# Altium integrated library FPGA Generic.IntLib: 1651 symbols (part 2 of 20)
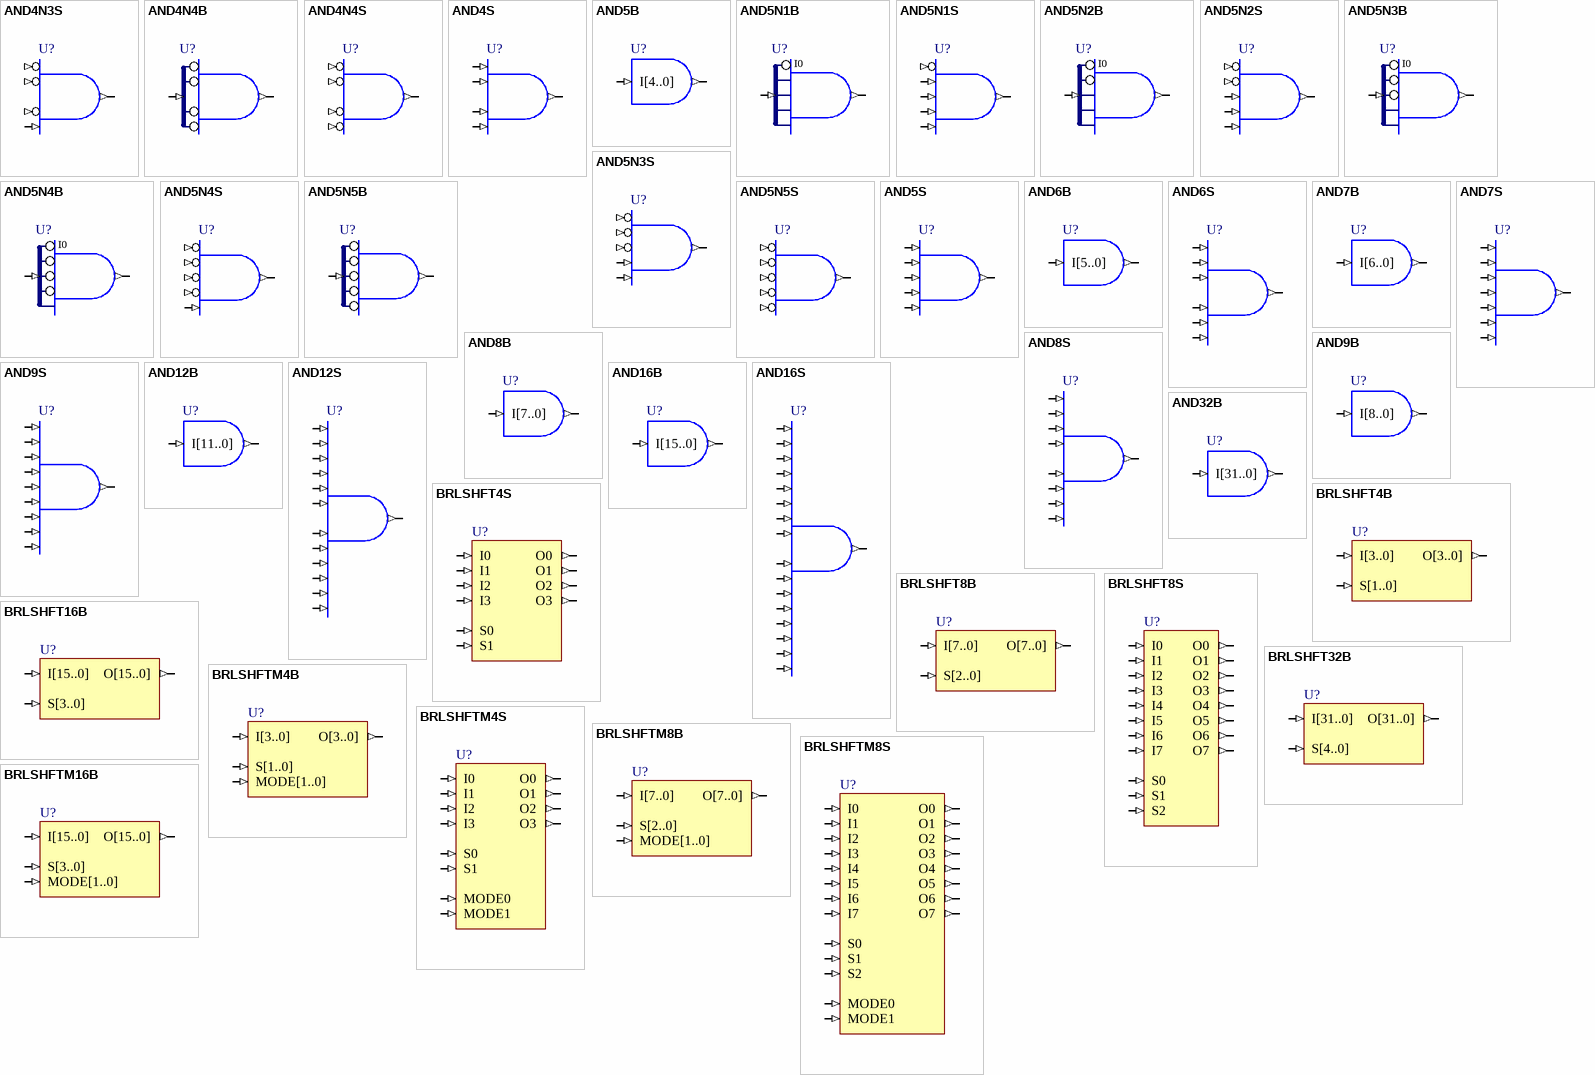
[diagram p44: symbols AND4N3S to BRLSHFTM16B]

## AND5N1B
designator U?
5-Input AND Gate with Active Low A Input, Bus Version; FunctionalClass: Logic Primitive; PortSize: 5; ArchiveName: GENERIC; VHDLIB_SIM: GENERIC_LIB; Published: 29-Jan-2004; Publisher: Altium Limited; LastRevisionNo: 1.00.00; HelpURL: CR0118 FPGA Generic Library Guide.pdf#page=114; ComponentLink1URL: CR0136 FPGA Logic Primitive Resource Usage.pdf#page=37; ComponentLink1Description: Core &Resource Usage; SubClass: AND; PortStyle: Bus Version
pins: I[4..0] (in), O (out)
text: I0

## AND5N1S
designator U?
5-Input AND Gate with Active Low A Input, Single Pin Version; XilinxEquivalent: AND5B1; FunctionalClass: Logic Primitive; PortSize: 5; ArchiveName: GENERIC; VHDLIB_SIM: GENERIC_LIB; Published: 29-Jan-2004; Publisher: Altium Limited; LastRevisionNo: 1.00.00; HelpURL: CR0118 FPGA Generic Library Guide.pdf#page=114; ComponentLink1URL: CR0136 FPGA Logic Primitive Resource Usage.pdf#page=38; ComponentLink1Description: Core &Resource Usage; SubClass: AND; PortStyle: Single Pin Version
pins: I0 (in), I1 (in), I2 (in), I3 (in), I4 (in), O (out)

## AND5N2B
designator U?
5-Input AND Gate with Active Low A and B Inputs, Bus Version; FunctionalClass: Logic Primitive; PortSize: 5; ArchiveName: GENERIC; VHDLIB_SIM: GENERIC_LIB; Published: 29-Jan-2004; Publisher: Altium Limited; LastRevisionNo: 1.00.00; HelpURL: CR0118 FPGA Generic Library Guide.pdf#page=114; ComponentLink1URL: CR0136 FPGA Logic Primitive Resource Usage.pdf#page=39; ComponentLink1Description: Core &Resource Usage; SubClass: AND; PortStyle: Bus Version
pins: I[4..0] (in), O (out)
text: I0

## AND5N2S
designator U?
5-Input AND Gate with Active Low A and B Inputs, Single Pin Version; XilinxEquivalent: AND5B2; FunctionalClass: Logic Primitive; PortSize: 5; ArchiveName: GENERIC; VHDLIB_SIM: GENERIC_LIB; Published: 29-Jan-2004; Publisher: Altium Limited; LastRevisionNo: 1.00.00; HelpURL: CR0118 FPGA Generic Library Guide.pdf#page=114; ComponentLink1URL: CR0136 FPGA Logic Primitive Resource Usage.pdf#page=40; ComponentLink1Description: Core &Resource Usage; SubClass: AND; PortStyle: Single Pin Version
pins: I0 (in), I1 (in), I2 (in), I3 (in), I4 (in), O (out)

## AND5N3B
designator U?
5-Input AND Gate with Active Low A, B and C Inputs, Bus Version; FunctionalClass: Logic Primitive; PortSize: 5; ArchiveName: GENERIC; VHDLIB_SIM: GENERIC_LIB; Published: 29-Jan-2004; Publisher: Altium Limited; LastRevisionNo: 1.00.00; HelpURL: CR0118 FPGA Generic Library Guide.pdf#page=114; ComponentLink1URL: CR0136 FPGA Logic Primitive Resource Usage.pdf#page=41; ComponentLink1Description: Core &Resource Usage; SubClass: AND; PortStyle: Bus Version
pins: I[4..0] (in), O (out)
text: I0

## AND5N3S
designator U?
5-Input AND Gate with Active Low A, B and C Inputs, Single Pin Version; XilinxEquivalent: AND5B3; FunctionalClass: Logic Primitive; PortSize: 5; ArchiveName: GENERIC; VHDLIB_SIM: GENERIC_LIB; Published: 29-Jan-2004; Publisher: Altium Limited; LastRevisionNo: 1.00.00; HelpURL: CR0118 FPGA Generic Library Guide.pdf#page=114; ComponentLink1URL: CR0136 FPGA Logic Primitive Resource Usage.pdf#page=42; ComponentLink1Description: Core &Resource Usage; SubClass: AND; PortStyle: Single Pin Version
pins: I0 (in), I1 (in), I2 (in), I3 (in), I4 (in), O (out)

## AND5N4B
designator U?
5-Input AND Gate with Active Low A, B, C and D Inputs, Bus Version; FunctionalClass: Logic Primitive; PortSize: 5; ArchiveName: GENERIC; VHDLIB_SIM: GENERIC_LIB; Published: 29-Jan-2004; Publisher: Altium Limited; LastRevisionNo: 1.00.00; HelpURL: CR0118 FPGA Generic Library Guide.pdf#page=114; ComponentLink1URL: CR0136 FPGA Logic Primitive Resource Usage.pdf#page=43; ComponentLink1Description: Core &Resource Usage; SubClass: AND; PortStyle: Bus Version
pins: I[4..0] (in), O (out)
text: I0

## AND5N4S
designator U?
5-Input AND Gate with Active Low A, B, C and D Inputs, Single Pin Version; XilinxEquivalent: AND5B4; FunctionalClass: Logic Primitive; PortSize: 5; ArchiveName: GENERIC; VHDLIB_SIM: GENERIC_LIB; Published: 29-Jan-2004; Publisher: Altium Limited; LastRevisionNo: 1.00.00; HelpURL: CR0118 FPGA Generic Library Guide.pdf#page=114; ComponentLink1URL: CR0136 FPGA Logic Primitive Resource Usage.pdf#page=44; ComponentLink1Description: Core &Resource Usage; SubClass: AND; PortStyle: Single Pin Version
pins: I0 (in), I1 (in), I2 (in), I3 (in), I4 (in), O (out)

## AND5N5B
designator U?
5-Input AND Gate with Active Low A, B, C, D and E Inputs, Bus Version; FunctionalClass: Logic Primitive; PortSize: 5; ArchiveName: GENERIC; VHDLIB_SIM: GENERIC_LIB; Published: 29-Jan-2004; Publisher: Altium Limited; LastRevisionNo: 1.00.00; HelpURL: CR0118 FPGA Generic Library Guide.pdf#page=114; ComponentLink1URL: CR0136 FPGA Logic Primitive Resource Usage.pdf#page=45; ComponentLink1Description: Core &Resource Usage; SubClass: AND; PortStyle: Bus Version
pins: I[4..0] (in), O (out)

## AND5N5S
designator U?
5-Input AND Gate with Active Low A, B, C, D and E Inputs, Single Pin Version; XilinxEquivalent: AND5B5; FunctionalClass: Logic Primitive; PortSize: 5; ArchiveName: GENERIC; VHDLIB_SIM: GENERIC_LIB; Published: 29-Jan-2004; Publisher: Altium Limited; LastRevisionNo: 1.00.00; HelpURL: CR0118 FPGA Generic Library Guide.pdf#page=114; ComponentLink1URL: CR0136 FPGA Logic Primitive Resource Usage.pdf#page=46; ComponentLink1Description: Core &Resource Usage; SubClass: AND; PortStyle: Single Pin Version
pins: I0 (in), I1 (in), I2 (in), I3 (in), I4 (in), O (out)

## AND5S
designator U?
5-Input AND Gate, Single Pin Version; XilinxEquivalent: AND5; FunctionalClass: Logic Primitive; PortSize: 5; ArchiveName: GENERIC; VHDLIB_SIM: GENERIC_LIB; Published: 29-Jan-2004; Publisher: Altium Limited; LastRevisionNo: 1.00.00; HelpURL: CR0118 FPGA Generic Library Guide.pdf#page=114; ComponentLink1URL: CR0136 FPGA Logic Primitive Resource Usage.pdf#page=47; ComponentLink1Description: Core &Resource Usage; SubClass: AND; PortStyle: Single Pin Version
pins: I0 (in), I1 (in), I2 (in), I3 (in), I4 (in), O (out)

## AND6B
designator U?
6-Input AND Gate, Bus Version; FunctionalClass: Logic Primitive; PortSize: 6; ArchiveName: GENERIC; VHDLIB_SIM: GENERIC_LIB; Published: 29-Jan-2004; Publisher: Altium Limited; LastRevisionNo: 1.00.00; HelpURL: CR0118 FPGA Generic Library Guide.pdf#page=114; ComponentLink1URL: CR0136 FPGA Logic Primitive Resource Usage.pdf#page=48; ComponentLink1Description: Core &Resource Usage; SubClass: AND; PortStyle: Bus Version
pins: I[5..0] (in), O (out)

## AND6S
designator U?
6-Input AND Gate, Single Pin Version; XilinxEquivalent: AND6; FunctionalClass: Logic Primitive; PortSize: 6; ArchiveName: GENERIC; VHDLIB_SIM: GENERIC_LIB; Published: 29-Jan-2004; Publisher: Altium Limited; LastRevisionNo: 1.00.00; HelpURL: CR0118 FPGA Generic Library Guide.pdf#page=114; ComponentLink1URL: CR0136 FPGA Logic Primitive Resource Usage.pdf#page=49; ComponentLink1Description: Core &Resource Usage; SubClass: AND; PortStyle: Single Pin Version
pins: I0 (in), I1 (in), I2 (in), I3 (in), I4 (in), I5 (in), O (out)

## AND7B
designator U?
7-Input AND Gate, Bus Version; FunctionalClass: Logic Primitive; PortSize: 7; ArchiveName: GENERIC; VHDLIB_SIM: GENERIC_LIB; Published: 29-Jan-2004; Publisher: Altium Limited; LastRevisionNo: 1.00.00; HelpURL: CR0118 FPGA Generic Library Guide.pdf#page=114; ComponentLink1URL: CR0136 FPGA Logic Primitive Resource Usage.pdf#page=50; ComponentLink1Description: Core &Resource Usage; SubClass: AND; PortStyle: Bus Version
pins: I[6..0] (in), O (out)

## AND7S
designator U?
7-Input AND Gate, Single Pin Version; XilinxEquivalent: AND7; FunctionalClass: Logic Primitive; PortSize: 7; ArchiveName: GENERIC; VHDLIB_SIM: GENERIC_LIB; Published: 29-Jan-2004; Publisher: Altium Limited; LastRevisionNo: 1.00.00; HelpURL: CR0118 FPGA Generic Library Guide.pdf#page=114; ComponentLink1URL: CR0136 FPGA Logic Primitive Resource Usage.pdf#page=51; ComponentLink1Description: Core &Resource Usage; SubClass: AND; PortStyle: Single Pin Version
pins: I0 (in), I1 (in), I2 (in), I3 (in), I4 (in), I5 (in), I6 (in), O (out)

## AND8B
designator U?
8-Input AND Gate, Bus Version; FunctionalClass: Logic Primitive; PortSize: 8; ArchiveName: GENERIC; VHDLIB_SIM: GENERIC_LIB; Published: 29-Jan-2004; Publisher: Altium Limited; LastRevisionNo: 1.00.00; HelpURL: CR0118 FPGA Generic Library Guide.pdf#page=114; ComponentLink1URL: CR0136 FPGA Logic Primitive Resource Usage.pdf#page=52; ComponentLink1Description: Core &Resource Usage; SubClass: AND; PortStyle: Bus Version
pins: I[7..0] (in), O (out)

## AND8S
designator U?
8-Input AND Gate, Single Pin Version; XilinxEquivalent: AND8; FunctionalClass: Logic Primitive; PortSize: 8; ArchiveName: GENERIC; VHDLIB_SIM: GENERIC_LIB; Published: 29-Jan-2004; Publisher: Altium Limited; LastRevisionNo: 1.00.00; HelpURL: CR0118 FPGA Generic Library Guide.pdf#page=114; ComponentLink1URL: CR0136 FPGA Logic Primitive Resource Usage.pdf#page=53; ComponentLink1Description: Core &Resource Usage; SubClass: AND; PortStyle: Single Pin Version
pins: I0 (in), I1 (in), I2 (in), I3 (in), I4 (in), I5 (in), I6 (in), I7 (in), O (out)

## AND9B
designator U?
9-Input AND Gate, Bus Version; FunctionalClass: Logic Primitive; PortSize: 9; ArchiveName: GENERIC; VHDLIB_SIM: GENERIC_LIB; Published: 29-Jan-2004; Publisher: Altium Limited; LastRevisionNo: 1.00.00; HelpURL: CR0118 FPGA Generic Library Guide.pdf#page=114; ComponentLink1URL: CR0136 FPGA Logic Primitive Resource Usage.pdf#page=54; ComponentLink1Description: Core &Resource Usage; SubClass: AND; PortStyle: Bus Version
pins: I[8..0] (in), O (out)

## AND9S
designator U?
9-Input AND Gate, Single Pin Version; XilinxEquivalent: AND9; FunctionalClass: Logic Primitive; PortSize: 9; ArchiveName: GENERIC; VHDLIB_SIM: GENERIC_LIB; Published: 29-Jan-2004; Publisher: Altium Limited; LastRevisionNo: 1.00.00; HelpURL: CR0118 FPGA Generic Library Guide.pdf#page=114; ComponentLink1URL: CR0136 FPGA Logic Primitive Resource Usage.pdf#page=55; ComponentLink1Description: Core &Resource Usage; SubClass: AND; PortStyle: Single Pin Version
pins: I0 (in), I1 (in), I2 (in), I3 (in), I4 (in), I5 (in), I6 (in), I7 (in), I8 (in), O (out)

## AND12B
designator U?
12-Input AND Gate, Bus Version; FunctionalClass: Logic Primitive; PortSize: 12; ArchiveName: GENERIC; VHDLIB_SIM: GENERIC_LIB; Published: 29-Jan-2004; Publisher: Altium Limited; LastRevisionNo: 1.00.00; HelpURL: CR0118 FPGA Generic Library Guide.pdf#page=114; ComponentLink1URL: CR0136 FPGA Logic Primitive Resource Usage.pdf#page=56; ComponentLink1Description: Core &Resource Usage; SubClass: AND; PortStyle: Bus Version
pins: I[11..0] (in), O (out)

## AND12S
designator U?
12-Input AND Gate, Single Pin Version; XilinxEquivalent: AND12; FunctionalClass: Logic Primitive; PortSize: 12; ArchiveName: GENERIC; VHDLIB_SIM: GENERIC_LIB; Published: 29-Jan-2004; Publisher: Altium Limited; LastRevisionNo: 1.00.00; HelpURL: CR0118 FPGA Generic Library Guide.pdf#page=114; ComponentLink1URL: CR0136 FPGA Logic Primitive Resource Usage.pdf#page=57; ComponentLink1Description: Core &Resource Usage; SubClass: AND; PortStyle: Single Pin Version
pins: I0 (in), I1 (in), I2 (in), I3 (in), I4 (in), I5 (in), I6 (in), I7 (in), I8 (in), I9 (in), I10 (in), I11 (in), O (out)

## AND16B
designator U?
16-Input AND Gate, Bus Version; FunctionalClass: Logic Primitive; PortSize: 16; ArchiveName: GENERIC; VHDLIB_SIM: GENERIC_LIB; Published: 29-Jan-2004; Publisher: Altium Limited; LastRevisionNo: 1.00.00; HelpURL: CR0118 FPGA Generic Library Guide.pdf#page=114; ComponentLink1URL: CR0136 FPGA Logic Primitive Resource Usage.pdf#page=58; ComponentLink1Description: Core &Resource Usage; SubClass: AND; PortStyle: Bus Version
pins: I[15..0] (in), O (out)

## AND16S
designator U?
16-Input AND Gate, Single Pin Version; XilinxEquivalent: AND16; FunctionalClass: Logic Primitive; PortSize: 16; ArchiveName: GENERIC; VHDLIB_SIM: GENERIC_LIB; Published: 29-Jan-2004; Publisher: Altium Limited; LastRevisionNo: 1.00.00; HelpURL: CR0118 FPGA Generic Library Guide.pdf#page=114; ComponentLink1URL: CR0136 FPGA Logic Primitive Resource Usage.pdf#page=59; ComponentLink1Description: Core &Resource Usage; SubClass: AND; PortStyle: Single Pin Version
pins: I0 (in), I1 (in), I2 (in), I3 (in), I4 (in), I5 (in), I6 (in), I7 (in), I8 (in), I9 (in), I10 (in), I11 (in), I12 (in), I13 (in), I14 (in), I15 (in), O (out)

## AND32B
designator U?
32-Input AND Gate, Bus Version; FunctionalClass: Logic Primitive; PortSize: 32; ArchiveName: GENERIC; VHDLIB_SIM: GENERIC_LIB; Published: 29-Jan-2004; Publisher: Altium Limited; LastRevisionNo: 1.00.00; HelpURL: CR0118 FPGA Generic Library Guide.pdf#page=114; ComponentLink1URL: CR0136 FPGA Logic Primitive Resource Usage.pdf#page=60; ComponentLink1Description: Core &Resource Usage; SubClass: AND; PortStyle: Bus Version
pins: I[31..0] (in), O (out)

## BRLSHFT4B
designator U?
4-Bit Barrel Shifter, Bus Version; PortSize: 4; ArchiveName: GENERIC; VHDLIB_SIM: GENERIC_LIB; Published: 29-Jan-2004; Publisher: Altium Limited; LastRevisionNo: 1.00.00; HelpURL: CR0118 FPGA Generic Library Guide.pdf#page=117; ComponentLink1URL: CR0142 FPGA Shifter Resource Usage.pdf#page=2; ComponentLink1Description: Core &Resource Usage; FunctionalClass: Shifter; PortStyle: Bus Version
pins: I[3..0] (in), O[3..0] (out), S[1..0] (in)

## BRLSHFT4S
designator U?
4-Bit Barrel Shifter, Single Pin Version; XilinxEquivalent: BRLSHFT4; PortSize: 4; ArchiveName: GENERIC; VHDLIB_SIM: GENERIC_LIB; Published: 29-Jan-2004; Publisher: Altium Limited; LastRevisionNo: 1.00.00; HelpURL: CR0118 FPGA Generic Library Guide.pdf#page=117; ComponentLink1URL: CR0142 FPGA Shifter Resource Usage.pdf#page=3; ComponentLink1Description: Core &Resource Usage; FunctionalClass: Shifter; PortStyle: Single Pin Version
pins: I0 (in), I1 (in), I2 (in), I3 (in), O0 (out), O1 (out), O2 (out), O3 (out), S0 (in), S1 (in)

## BRLSHFT8B
designator U?
8-Bit Barrel Shifter, Bus Version; PortSize: 8; ArchiveName: GENERIC; VHDLIB_SIM: GENERIC_LIB; Published: 29-Jan-2004; Publisher: Altium Limited; LastRevisionNo: 1.00.00; HelpURL: CR0118 FPGA Generic Library Guide.pdf#page=117; ComponentLink1URL: CR0142 FPGA Shifter Resource Usage.pdf#page=4; ComponentLink1Description: Core &Resource Usage; FunctionalClass: Shifter; PortStyle: Bus Version
pins: I[7..0] (in), O[7..0] (out), S[2..0] (in)

## BRLSHFT8S
designator U?
8-Bit Barrel Shifter, Single Pin Version; XilinxEquivalent: BRLSHFT8; PortSize: 8; ArchiveName: GENERIC; VHDLIB_SIM: GENERIC_LIB; Published: 29-Jan-2004; Publisher: Altium Limited; LastRevisionNo: 1.00.00; HelpURL: CR0118 FPGA Generic Library Guide.pdf#page=117; ComponentLink1URL: CR0142 FPGA Shifter Resource Usage.pdf#page=5; ComponentLink1Description: Core &Resource Usage; FunctionalClass: Shifter; PortStyle: Single Pin Version
pins: I0 (in), I1 (in), I2 (in), I3 (in), I4 (in), I5 (in), I6 (in), I7 (in), O0 (out), O1 (out), O2 (out), O3 (out), O4 (out), O5 (out), O6 (out), O7 (out), S0 (in), S1 (in), S2 (in)

## BRLSHFT16B
designator U?
16-Bit Barrel Shifter, Bus Version; PortSize: 16; ArchiveName: GENERIC; VHDLIB_SIM: GENERIC_LIB; Published: 31-May-2004; Publisher: Altium Limited; LastRevisionNo: 1.00.00; HelpURL: CR0118 FPGA Generic Library Guide.pdf#page=117; ComponentLink1URL: CR0142 FPGA Shifter Resource Usage.pdf#page=6; ComponentLink1Description: Core &Resource Usage; FunctionalClass: Shifter; PortStyle: Bus Version
pins: I[15..0] (in), O[15..0] (out), S[3..0] (in)

## BRLSHFT32B
designator U?
32-Bit Barrel Shifter, Bus Version; PortSize: 32; ArchiveName: GENERIC; VHDLIB_SIM: GENERIC_LIB; Published: 31-May-2004; Publisher: Altium Limited; LastRevisionNo: 1.00.00; HelpURL: CR0118 FPGA Generic Library Guide.pdf#page=117; ComponentLink1URL: CR0142 FPGA Shifter Resource Usage.pdf#page=7; ComponentLink1Description: Core &Resource Usage; FunctionalClass: Shifter; PortStyle: Bus Version
pins: I[31..0] (in), O[31..0] (out), S[4..0] (in)

## BRLSHFTM4B
designator U?
4-Bit Fill Mode Bi-Directional Barrel Shifter, Bus Version; PortSize: 4; ArchiveName: GENERIC; VHDLIB_SIM: GENERIC_LIB; Published: 31-May-2004; Publisher: Altium Limited; LastRevisionNo: 1.00.00; HelpURL: CR0118 FPGA Generic Library Guide.pdf#page=120; ComponentLink1URL: CR0142 FPGA Shifter Resource Usage.pdf#page=8; ComponentLink1Description: Core &Resource Usage; FunctionalClass: Shifter; SubClass: Fill Mode; PortStyle: Bus Version
pins: I[3..0] (in), MODE[1..0] (in), O[3..0] (out), S[1..0] (in)

## BRLSHFTM4S
designator U?
4-Bit Fill Mode Bi-Directional Barrel Shifter, Single pin Version; PortSize: 4; ArchiveName: GENERIC; VHDLIB_SIM: GENERIC_LIB; Published: 31-May-2004; Publisher: Altium Limited; LastRevisionNo: 1.00.00; HelpURL: CR0118 FPGA Generic Library Guide.pdf#page=120; ComponentLink1URL: CR0142 FPGA Shifter Resource Usage.pdf#page=9; ComponentLink1Description: Core &Resource Usage; FunctionalClass: Shifter; SubClass: Fill Mode; PortStyle: Single Pin Version
pins: I0 (in), I1 (in), I2 (in), I3 (in), MODE0 (in), MODE1 (in), O0 (out), O1 (out), O2 (out), O3 (out), S0 (in), S1 (in)

## BRLSHFTM8B
designator U?
8-Bit Fill Mode Bi-Directional Barrel Shifter, Bus Version; PortSize: 8; ArchiveName: GENERIC; VHDLIB_SIM: GENERIC_LIB; Published: 31-May-2004; Publisher: Altium Limited; LastRevisionNo: 1.00.00; HelpURL: CR0118 FPGA Generic Library Guide.pdf#page=120; ComponentLink1URL: CR0142 FPGA Shifter Resource Usage.pdf#page=10; ComponentLink1Description: Core &Resource Usage; FunctionalClass: Shifter; SubClass: Fill Mode; PortStyle: Bus Version
pins: I[7..0] (in), MODE[1..0] (in), O[7..0] (out), S[2..0] (in)

## BRLSHFTM8S
designator U?
8-Bit Fill Mode Bi-Directional Barrel Shifter, Single pin Version; PortSize: 8; ArchiveName: GENERIC; VHDLIB_SIM: GENERIC_LIB; Published: 31-May-2004; Publisher: Altium Limited; LastRevisionNo: 1.00.00; HelpURL: CR0118 FPGA Generic Library Guide.pdf#page=120; ComponentLink1URL: CR0142 FPGA Shifter Resource Usage.pdf#page=11; ComponentLink1Description: Core &Resource Usage; FunctionalClass: Shifter; SubClass: Fill Mode; PortStyle: Single Pin Version
pins: I0 (in), I1 (in), I2 (in), I3 (in), I4 (in), I5 (in), I6 (in), I7 (in), MODE0 (in), MODE1 (in), O0 (out), O1 (out), O2 (out), O3 (out), O4 (out), O5 (out), O6 (out), O7 (out), S0 (in), S1 (in), S2 (in)

## BRLSHFTM16B
designator U?
16-Bit Fill Mode Bi-Directional Barrel Shifter, Bus Version; PortSize: 16; ArchiveName: GENERIC; VHDLIB_SIM: GENERIC_LIB; Published: 31-May-2004; Publisher: Altium Limited; LastRevisionNo: 1.00.00; HelpURL: CR0118 FPGA Generic Library Guide.pdf#page=120; ComponentLink1URL: CR0142 FPGA Shifter Resource Usage.pdf#page=12; ComponentLink1Description: Core &Resource Usage; FunctionalClass: Shifter; SubClass: Fill Mode; PortStyle: Bus Version
pins: I[15..0] (in), MODE[1..0] (in), O[15..0] (out), S[3..0] (in)

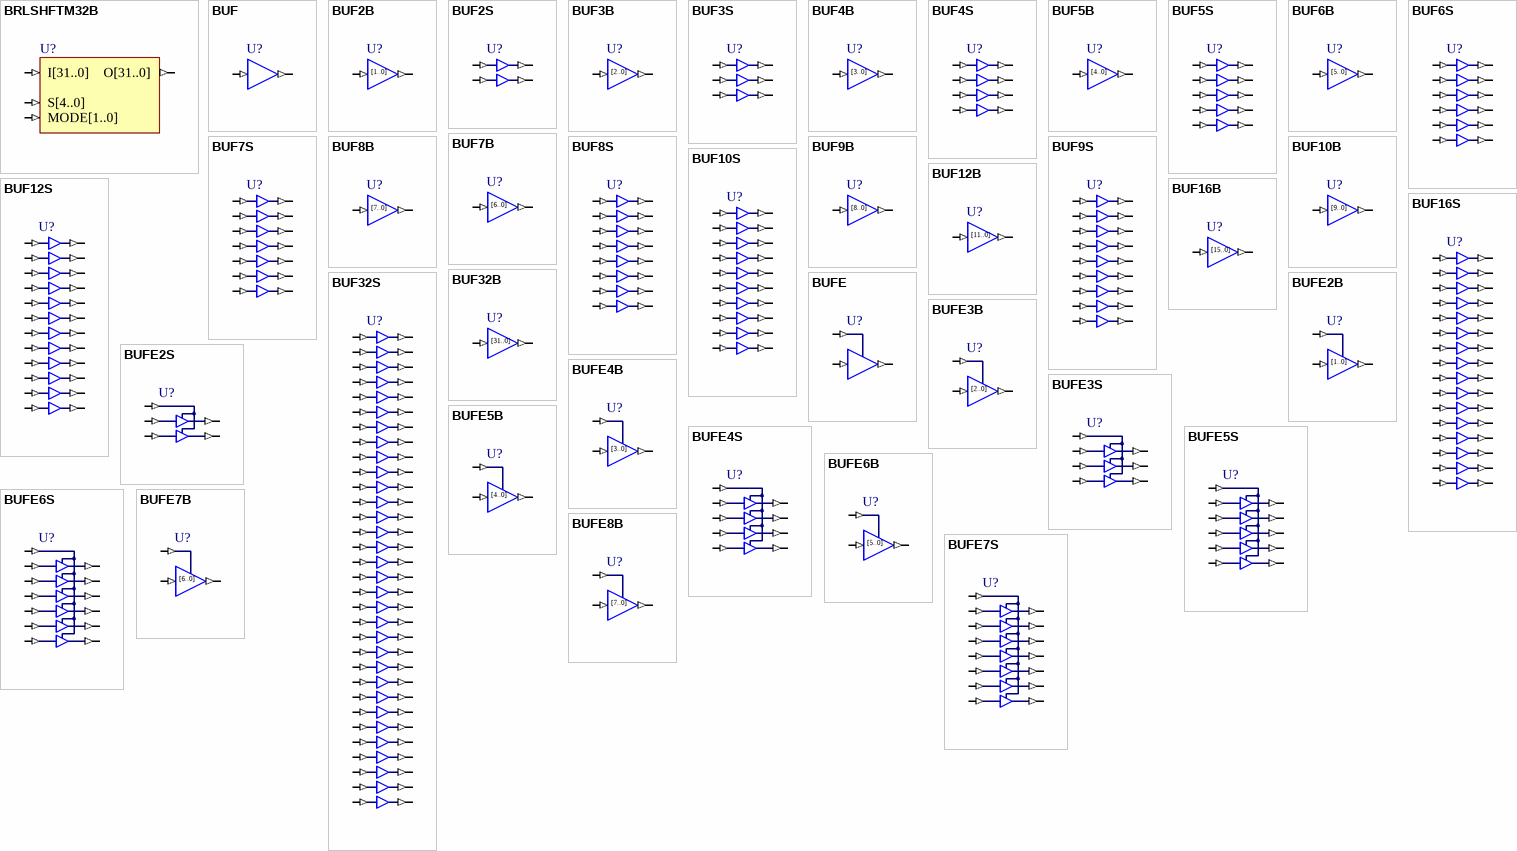
[diagram p3: symbols BRLSHFTM32B to BUFE8B]

## BRLSHFTM32B
designator U?
32-Bit Fill Mode Bi-Directional Barrel Shifter, Bus Version; PortSize: 32; ArchiveName: GENERIC; VHDLIB_SIM: GENERIC_LIB; Published: 31-May-2004; Publisher: Altium Limited; LastRevisionNo: 1.00.00; HelpURL: CR0118 FPGA Generic Library Guide.pdf#page=120; ComponentLink1URL: CR0142 FPGA Shifter Resource Usage.pdf#page=13; ComponentLink1Description: Core &Resource Usage; FunctionalClass: Shifter; SubClass: Fill Mode; PortStyle: Bus Version
pins: I[31..0] (in), MODE[1..0] (in), O[31..0] (out), S[4..0] (in)

## BUF
designator U?
1-bit General Purpose (Non-inverting) Buffer; XilinxEquivalent: BUF; ArchiveName: GENERIC; VHDLIB_SIM: GENERIC_LIB; Published: 29-Jan-2004; Publisher: Altium Limited; LastRevisionNo: 1.00.00; HelpURL: CR0118 FPGA Generic Library Guide.pdf#page=122; ComponentLink1URL: CR0125 FPGA Buffer Resource Usage.pdf#page=3; ComponentLink1Description: Core &Resource Usage; FunctionalClass: Buffer; SubClass: BUF
pins: I (in), O (out)

## BUF2B
designator U?
2-Bit General Purpose (Non-inverting) Buffer, Bus Version; SubClass: BUF; PortSize: 2; ArchiveName: GENERIC; VHDLIB_SIM: GENERIC_LIB; Published: 29-Jan-2004; Publisher: Altium Limited; LastRevisionNo: 1.00.00; HelpURL: CR0118 FPGA Generic Library Guide.pdf#page=122; ComponentLink1URL: CR0125 FPGA Buffer Resource Usage.pdf#page=4; ComponentLink1Description: Core &Resource Usage; FunctionalClass: Buffer; PortStyle: Bus Version
pins: I[1..0] (in), O[1..0] (out)
text: [1..0]

## BUF2S
designator U?
2-Bit General Purpose (Non-inverting) Buffer, Single Pin Version; SubClass: BUF; PortSize: 2; ArchiveName: GENERIC; VHDLIB_SIM: GENERIC_LIB; Published: 29-Jan-2004; Publisher: Altium Limited; LastRevisionNo: 1.00.00; HelpURL: CR0118 FPGA Generic Library Guide.pdf#page=122; ComponentLink1URL: CR0125 FPGA Buffer Resource Usage.pdf#page=5; ComponentLink1Description: Core &Resource Usage; FunctionalClass: Buffer; PortStyle: Single Pin Version
pins: I0 (in), I1 (in), O0 (out), O1 (out)

## BUF3B
designator U?
3-Bit General Purpose (Non-inverting) Buffer, Bus Version; SubClass: BUF; PortSize: 3; ArchiveName: GENERIC; VHDLIB_SIM: GENERIC_LIB; Published: 29-Jan-2004; Publisher: Altium Limited; LastRevisionNo: 1.00.00; HelpURL: CR0118 FPGA Generic Library Guide.pdf#page=122; ComponentLink1URL: CR0125 FPGA Buffer Resource Usage.pdf#page=6; ComponentLink1Description: Core &Resource Usage; FunctionalClass: Buffer; PortStyle: Bus Version
pins: I[2..0] (in), O[2..0] (out)
text: [2..0]

## BUF3S
designator U?
3-Bit General Purpose (Non-inverting) Buffer, Single Pin Version; SubClass: BUF; PortSize: 3; ArchiveName: GENERIC; VHDLIB_SIM: GENERIC_LIB; Published: 29-Jan-2004; Publisher: Altium Limited; LastRevisionNo: 1.00.00; HelpURL: CR0118 FPGA Generic Library Guide.pdf#page=122; ComponentLink1URL: CR0125 FPGA Buffer Resource Usage.pdf#page=7; ComponentLink1Description: Core &Resource Usage; FunctionalClass: Buffer; PortStyle: Single Pin Version
pins: I0 (in), I1 (in), I2 (in), O0 (out), O1 (out), O2 (out)

## BUF4B
designator U?
4-Bit General Purpose (Non-inverting) Buffer, Bus Version; SubClass: BUF; PortSize: 4; ArchiveName: GENERIC; VHDLIB_SIM: GENERIC_LIB; Published: 29-Jan-2004; Publisher: Altium Limited; LastRevisionNo: 1.00.00; HelpURL: CR0118 FPGA Generic Library Guide.pdf#page=122; ComponentLink1URL: CR0125 FPGA Buffer Resource Usage.pdf#page=8; ComponentLink1Description: Core &Resource Usage; FunctionalClass: Buffer; PortStyle: Bus Version
pins: I[3..0] (in), O[3..0] (out)
text: [3..0]

## BUF4S
designator U?
4-Bit General Purpose (Non-inverting) Buffer, Single Pin Version; XilinxEquivalent: BUF4; SubClass: BUF; PortSize: 4; ArchiveName: GENERIC; VHDLIB_SIM: GENERIC_LIB; Published: 29-Jan-2004; Publisher: Altium Limited; LastRevisionNo: 1.00.00; HelpURL: CR0118 FPGA Generic Library Guide.pdf#page=122; ComponentLink1URL: CR0125 FPGA Buffer Resource Usage.pdf#page=9; ComponentLink1Description: Core &Resource Usage; FunctionalClass: Buffer; PortStyle: Single Pin Version
pins: I0 (in), I1 (in), I2 (in), I3 (in), O0 (out), O1 (out), O2 (out), O3 (out)

## BUF5B
designator U?
5-Bit General Purpose (Non-inverting) Buffer, Bus Version; SubClass: BUF; PortSize: 5; ArchiveName: GENERIC; VHDLIB_SIM: GENERIC_LIB; Published: 29-Jan-2004; Publisher: Altium Limited; LastRevisionNo: 1.00.00; HelpURL: CR0118 FPGA Generic Library Guide.pdf#page=122; ComponentLink1URL: CR0125 FPGA Buffer Resource Usage.pdf#page=10; ComponentLink1Description: Core &Resource Usage; FunctionalClass: Buffer; PortStyle: Bus Version
pins: I[4..0] (in), O[4..0] (out)
text: [4..0]

## BUF5S
designator U?
5-Bit General Purpose (Non-inverting) Buffer, Single Pin Version; SubClass: BUF; PortSize: 5; ArchiveName: GENERIC; VHDLIB_SIM: GENERIC_LIB; Published: 29-Jan-2004; Publisher: Altium Limited; LastRevisionNo: 1.00.00; HelpURL: CR0118 FPGA Generic Library Guide.pdf#page=122; ComponentLink1URL: CR0125 FPGA Buffer Resource Usage.pdf#page=11; ComponentLink1Description: Core &Resource Usage; FunctionalClass: Buffer; PortStyle: Single Pin Version
pins: I0 (in), I1 (in), I2 (in), I3 (in), I4 (in), O0 (out), O1 (out), O2 (out), O3 (out), O4 (out)

## BUF6B
designator U?
6-Bit General Purpose (Non-inverting) Buffer, Bus Version; SubClass: BUF; PortSize: 6; ArchiveName: GENERIC; VHDLIB_SIM: GENERIC_LIB; Published: 29-Jan-2004; Publisher: Altium Limited; LastRevisionNo: 1.00.00; HelpURL: CR0118 FPGA Generic Library Guide.pdf#page=122; ComponentLink1URL: CR0125 FPGA Buffer Resource Usage.pdf#page=12; ComponentLink1Description: Core &Resource Usage; FunctionalClass: Buffer; PortStyle: Bus Version
pins: I[5..0] (in), O[5..0] (out)
text: [5..0]

## BUF6S
designator U?
6-Bit General Purpose (Non-inverting) Buffer, Single Pin Version; SubClass: BUF; PortSize: 6; ArchiveName: GENERIC; VHDLIB_SIM: GENERIC_LIB; Published: 29-Jan-2004; Publisher: Altium Limited; LastRevisionNo: 1.00.00; HelpURL: CR0118 FPGA Generic Library Guide.pdf#page=122; ComponentLink1URL: CR0125 FPGA Buffer Resource Usage.pdf#page=13; ComponentLink1Description: Core &Resource Usage; FunctionalClass: Buffer; PortStyle: Single Pin Version
pins: I0 (in), I1 (in), I2 (in), I3 (in), I4 (in), I5 (in), O0 (out), O1 (out), O2 (out), O3 (out), O4 (out), O5 (out)

## BUF7B
designator U?
7-Bit General Purpose (Non-inverting) Buffer, Bus Version; SubClass: BUF; PortSize: 7; ArchiveName: GENERIC; VHDLIB_SIM: GENERIC_LIB; Published: 29-Jan-2004; Publisher: Altium Limited; LastRevisionNo: 1.00.00; HelpURL: CR0118 FPGA Generic Library Guide.pdf#page=122; ComponentLink1URL: CR0125 FPGA Buffer Resource Usage.pdf#page=14; ComponentLink1Description: Core &Resource Usage; FunctionalClass: Buffer; PortStyle: Bus Version
pins: I[6..0] (in), O[6..0] (out)
text: [6..0]

## BUF7S
designator U?
7-Bit General Purpose (Non-inverting) Buffer, Single Pin Version; SubClass: BUF; PortSize: 7; ArchiveName: GENERIC; VHDLIB_SIM: GENERIC_LIB; Published: 29-Jan-2004; Publisher: Altium Limited; LastRevisionNo: 1.00.00; HelpURL: CR0118 FPGA Generic Library Guide.pdf#page=122; ComponentLink1URL: CR0125 FPGA Buffer Resource Usage.pdf#page=15; ComponentLink1Description: Core &Resource Usage; FunctionalClass: Buffer; PortStyle: Single Pin Version
pins: I0 (in), I1 (in), I2 (in), I3 (in), I4 (in), I5 (in), I6 (in), O0 (out), O1 (out), O2 (out), O3 (out), O4 (out), O5 (out), O6 (out)

## BUF8B
designator U?
8-Bit General Purpose (Non-inverting) Buffer, Bus Version; XilinxEquivalent: BUF8; SubClass: BUF; PortSize: 8; ArchiveName: GENERIC; VHDLIB_SIM: GENERIC_LIB; Published: 29-Jan-2004; Publisher: Altium Limited; LastRevisionNo: 1.00.00; HelpURL: CR0118 FPGA Generic Library Guide.pdf#page=122; ComponentLink1URL: CR0125 FPGA Buffer Resource Usage.pdf#page=16; ComponentLink1Description: Core &Resource Usage; FunctionalClass: Buffer; PortStyle: Bus Version
pins: I[7..0] (in), O[7..0] (out)
text: [7..0]

## BUF8S
designator U?
8-Bit General Purpose (Non-inverting) Buffer, Single Pin Version; SubClass: BUF; PortSize: 8; ArchiveName: GENERIC; VHDLIB_SIM: GENERIC_LIB; Published: 29-Jan-2004; Publisher: Altium Limited; LastRevisionNo: 1.00.00; HelpURL: CR0118 FPGA Generic Library Guide.pdf#page=122; ComponentLink1URL: CR0125 FPGA Buffer Resource Usage.pdf#page=17; ComponentLink1Description: Core &Resource Usage; FunctionalClass: Buffer; PortStyle: Single Pin Version
pins: I0 (in), I1 (in), I2 (in), I3 (in), I4 (in), I5 (in), I6 (in), I7 (in), O0 (out), O1 (out), O2 (out), O3 (out), O4 (out), O5 (out), O6 (out), O7 (out)

## BUF9B
designator U?
9-Bit General Purpose (Non-inverting) Buffer, Bus Version; SubClass: BUF; PortSize: 9; ArchiveName: GENERIC; VHDLIB_SIM: GENERIC_LIB; Published: 29-Jan-2004; Publisher: Altium Limited; LastRevisionNo: 1.00.00; HelpURL: CR0118 FPGA Generic Library Guide.pdf#page=122; ComponentLink1URL: CR0125 FPGA Buffer Resource Usage.pdf#page=18; ComponentLink1Description: Core &Resource Usage; FunctionalClass: Buffer; PortStyle: Bus Version
pins: I[8..0] (in), O[8..0] (out)
text: [8..0]

## BUF9S
designator U?
9-Bit General Purpose (Non-inverting) Buffer, Single Pin Version; SubClass: BUF; PortSize: 9; ArchiveName: GENERIC; VHDLIB_SIM: GENERIC_LIB; Published: 29-Jan-2004; Publisher: Altium Limited; LastRevisionNo: 1.00.00; HelpURL: CR0118 FPGA Generic Library Guide.pdf#page=122; ComponentLink1URL: CR0125 FPGA Buffer Resource Usage.pdf#page=19; ComponentLink1Description: Core &Resource Usage; FunctionalClass: Buffer; PortStyle: Single Pin Version
pins: I0 (in), I1 (in), I2 (in), I3 (in), I4 (in), I5 (in), I6 (in), I7 (in), I8 (in), O0 (out), O1 (out), O2 (out), O3 (out), O4 (out), O5 (out), O6 (out), O7 (out), O8 (out)

## BUF10B
designator U?
10-Bit General Purpose (Non-inverting) Buffer, Bus Version; SubClass: BUF; PortSize: 10; ArchiveName: GENERIC; VHDLIB_SIM: GENERIC_LIB; Published: 29-Jan-2004; Publisher: Altium Limited; LastRevisionNo: 1.00.00; HelpURL: CR0118 FPGA Generic Library Guide.pdf#page=122; ComponentLink1URL: CR0125 FPGA Buffer Resource Usage.pdf#page=20; ComponentLink1Description: Core &Resource Usage; FunctionalClass: Buffer; PortStyle: Bus Version
pins: I[9..0] (in), O[9..0] (out)
text: [9..0]

## BUF10S
designator U?
10-Bit General Purpose (Non-inverting) Buffer, Single Pin Version; SubClass: BUF; PortSize: 10; ArchiveName: GENERIC; VHDLIB_SIM: GENERIC_LIB; Published: 29-Jan-2004; Publisher: Altium Limited; LastRevisionNo: 1.00.00; HelpURL: CR0118 FPGA Generic Library Guide.pdf#page=122; ComponentLink1URL: CR0125 FPGA Buffer Resource Usage.pdf#page=21; ComponentLink1Description: Core &Resource Usage; FunctionalClass: Buffer; PortStyle: Single Pin Version
pins: I0 (in), I1 (in), I2 (in), I3 (in), I4 (in), I5 (in), I6 (in), I7 (in), I8 (in), I9 (in), O0 (out), O1 (out), O2 (out), O3 (out), O4 (out), O5 (out), O6 (out), O7 (out), O8 (out), O9 (out)

## BUF12B
designator U?
12-Bit General Purpose (Non-inverting) Buffer, Bus Version; SubClass: BUF; PortSize: 12; ArchiveName: GENERIC; VHDLIB_SIM: GENERIC_LIB; Published: 29-Jan-2004; Publisher: Altium Limited; LastRevisionNo: 1.00.00; HelpURL: CR0118 FPGA Generic Library Guide.pdf#page=122; ComponentLink1URL: CR0125 FPGA Buffer Resource Usage.pdf#page=22; ComponentLink1Description: Core &Resource Usage; FunctionalClass: Buffer; PortStyle: Bus Version
pins: I[11..0] (in), O[11..0] (out)
text: [11..0]

## BUF12S
designator U?
12-Bit General Purpose (Non-inverting) Buffer, Single Pin Version; SubClass: BUF; PortSize: 12; ArchiveName: GENERIC; VHDLIB_SIM: GENERIC_LIB; Published: 29-Jan-2004; Publisher: Altium Limited; LastRevisionNo: 1.00.00; HelpURL: CR0118 FPGA Generic Library Guide.pdf#page=122; ComponentLink1URL: CR0125 FPGA Buffer Resource Usage.pdf#page=23; ComponentLink1Description: Core &Resource Usage; FunctionalClass: Buffer; PortStyle: Single Pin Version
pins: I0 (in), I1 (in), I2 (in), I3 (in), I4 (in), I5 (in), I6 (in), I7 (in), I8 (in), I9 (in), I10 (in), I11 (in), O0 (out), O1 (out), O2 (out), O3 (out), O4 (out), O5 (out), O6 (out), O7 (out), O8 (out), O9 (out), O10 (out), O11 (out)

## BUF16B
designator U?
16-Bit General Purpose (Non-inverting) Buffer, Bus Version; XilinxEquivalent: BUF16; SubClass: BUF; PortSize: 16; ArchiveName: GENERIC; VHDLIB_SIM: GENERIC_LIB; Published: 29-Jan-2004; Publisher: Altium Limited; LastRevisionNo: 1.00.00; HelpURL: CR0118 FPGA Generic Library Guide.pdf#page=122; ComponentLink1URL: CR0125 FPGA Buffer Resource Usage.pdf#page=24; ComponentLink1Description: Core &Resource Usage; FunctionalClass: Buffer; PortStyle: Bus Version
pins: I[15..0] (in), O[15..0] (out)
text: [15..0]

## BUF16S
designator U?
16-Bit General Purpose (Non-inverting) Buffer, Single Pin Version; SubClass: BUF; PortSize: 16; ArchiveName: GENERIC; VHDLIB_SIM: GENERIC_LIB; Published: 29-Jan-2004; Publisher: Altium Limited; LastRevisionNo: 1.00.00; HelpURL: CR0118 FPGA Generic Library Guide.pdf#page=122; ComponentLink1URL: CR0125 FPGA Buffer Resource Usage.pdf#page=25; ComponentLink1Description: Core &Resource Usage; FunctionalClass: Buffer; PortStyle: Single Pin Version
pins: I0 (in), I1 (in), I2 (in), I3 (in), I4 (in), I5 (in), I6 (in), I7 (in), I8 (in), I9 (in), I10 (in), I11 (in), I12 (in), I13 (in), I14 (in), I15 (in), O0 (out), O1 (out), O2 (out), O3 (out), O4 (out), O5 (out), O6 (out), O7 (out), O8 (out), O9 (out), O10 (out), O11 (out), O12 (out), O13 (out), O14 (out), O15 (out)

## BUF32B
designator U?
32-Bit General Purpose (Non-inverting) Buffer, Bus Version; SubClass: BUF; PortSize: 32; ArchiveName: GENERIC; VHDLIB_SIM: GENERIC_LIB; Published: 29-Jan-2004; Publisher: Altium Limited; LastRevisionNo: 1.00.00; HelpURL: CR0118 FPGA Generic Library Guide.pdf#page=122; ComponentLink1URL: CR0125 FPGA Buffer Resource Usage.pdf#page=26; ComponentLink1Description: Core &Resource Usage; FunctionalClass: Buffer; PortStyle: Bus Version
pins: I[31..0] (in), O[31..0] (out)
text: [31..0]

## BUF32S
designator U?
32-Bit General Purpose (Non-inverting) Buffer, Single Pin Version; SubClass: BUF; PortSize: 32; ArchiveName: GENERIC; VHDLIB_SIM: GENERIC_LIB; Published: 29-Jan-2004; Publisher: Altium Limited; LastRevisionNo: 1.00.00; HelpURL: CR0118 FPGA Generic Library Guide.pdf#page=122; ComponentLink1URL: CR0125 FPGA Buffer Resource Usage.pdf#page=27; ComponentLink1Description: Core &Resource Usage; FunctionalClass: Buffer; PortStyle: Single Pin Version
pins: I0 (in), I1 (in), I2 (in), I3 (in), I4 (in), I5 (in), I6 (in), I7 (in), I8 (in), I9 (in), I10 (in), I11 (in), I12 (in), I13 (in), I14 (in), I15 (in), I16 (in), I17 (in), I18 (in), I19 (in), I20 (in), I21 (in), I22 (in), I23 (in), I24 (in), I25 (in), I26 (in), I27 (in), I28 (in), I29 (in), I30 (in), I31 (in), O0 (out), O1 (out), O2 (out), O3 (out), O4 (out), O5 (out), O6 (out), O7 (out), O8 (out), O9 (out), O10 (out), O11 (out), O12 (out), O13 (out), O14 (out), O15 (out), O16 (out), O17 (out), O18 (out), O19 (out), O20 (out), O21 (out), O22 (out), O23 (out), O24 (out), O25 (out), O26 (out), O27 (out), O28 (out), O29 (out), O30 (out), O31 (out)

## BUFE
designator U?
1-bit 3-state Buffer with Active High Enable; XilinxEquivalent: BUFE; ArchiveName: GENERIC; VHDLIB_SIM: GENERIC_LIB; Published: 29-Jan-2004; Publisher: Altium Limited; LastRevisionNo: 1.00.00; HelpURL: CR0118 FPGA Generic Library Guide.pdf#page=124; ComponentLink1URL: CR0125 FPGA Buffer Resource Usage.pdf#page=28; ComponentLink1Description: Core &Resource Usage; FunctionalClass: Buffer; SubClass: BUFE; Enable: High
pins: E (in), I (in), O (out)

## BUFE2B
designator U?
2-Bit 3-state Buffer with Active High Enable, Bus Version; SubClass: BUFE; PortSize: 2; ArchiveName: GENERIC; VHDLIB_SIM: GENERIC_LIB; Published: 29-Jan-2004; Publisher: Altium Limited; LastRevisionNo: 1.00.00; HelpURL: CR0118 FPGA Generic Library Guide.pdf#page=124; ComponentLink1URL: CR0125 FPGA Buffer Resource Usage.pdf#page=29; ComponentLink1Description: Core &Resource Usage; FunctionalClass: Buffer; Enable: High; PortStyle: Bus Version
pins: E (in), I[1..0] (in), O[1..0] (out)
text: [1..0]

## BUFE2S
designator U?
2-Bit 3-state Buffer with Active High Enable, Single Pin Version; SubClass: BUFE; PortSize: 2; ArchiveName: GENERIC; VHDLIB_SIM: GENERIC_LIB; Published: 29-Jan-2004; Publisher: Altium Limited; LastRevisionNo: 1.00.00; HelpURL: CR0118 FPGA Generic Library Guide.pdf#page=124; ComponentLink1URL: CR0125 FPGA Buffer Resource Usage.pdf#page=30; ComponentLink1Description: Core &Resource Usage; FunctionalClass: Buffer; Enable: High; PortStyle: Single Pin Version
pins: E (in), I0 (in), I1 (in), O0 (out), O1 (out)

## BUFE3B
designator U?
3-Bit 3-state Buffer with Active High Enable, Bus Version; SubClass: BUFE; PortSize: 3; ArchiveName: GENERIC; VHDLIB_SIM: GENERIC_LIB; Published: 29-Jan-2004; Publisher: Altium Limited; LastRevisionNo: 1.00.00; HelpURL: CR0118 FPGA Generic Library Guide.pdf#page=124; ComponentLink1URL: CR0125 FPGA Buffer Resource Usage.pdf#page=31; ComponentLink1Description: Core &Resource Usage; FunctionalClass: Buffer; Enable: High; PortStyle: Bus Version
pins: E (in), I[2..0] (in), O[2..0] (out)
text: [2..0]

## BUFE3S
designator U?
3-Bit 3-state Buffer with Active High Enable, Single Pin Version; SubClass: BUFE; PortSize: 3; ArchiveName: GENERIC; VHDLIB_SIM: GENERIC_LIB; Published: 29-Jan-2004; Publisher: Altium Limited; LastRevisionNo: 1.00.00; HelpURL: CR0118 FPGA Generic Library Guide.pdf#page=124; ComponentLink1URL: CR0125 FPGA Buffer Resource Usage.pdf#page=32; ComponentLink1Description: Core &Resource Usage; FunctionalClass: Buffer; Enable: High; PortStyle: Single Pin Version
pins: E (in), I0 (in), I1 (in), I2 (in), O0 (out), O1 (out), O2 (out)

## BUFE4B
designator U?
4-Bit 3-state Buffer with Active High Enable, Bus Version; SubClass: BUFE; PortSize: 4; ArchiveName: GENERIC; VHDLIB_SIM: GENERIC_LIB; Published: 29-Jan-2004; Publisher: Altium Limited; LastRevisionNo: 1.00.00; HelpURL: CR0118 FPGA Generic Library Guide.pdf#page=124; ComponentLink1URL: CR0125 FPGA Buffer Resource Usage.pdf#page=33; ComponentLink1Description: Core &Resource Usage; FunctionalClass: Buffer; Enable: High; PortStyle: Bus Version
pins: E (in), I[3..0] (in), O[3..0] (out)
text: [3..0]

## BUFE4S
designator U?
4-Bit 3-state Buffer with Active High Enable, Single Pin Version; XilinxEquivalent: BUFE4; SubClass: BUFE; PortSize: 4; ArchiveName: GENERIC; VHDLIB_SIM: GENERIC_LIB; Published: 29-Jan-2004; Publisher: Altium Limited; LastRevisionNo: 1.00.00; HelpURL: CR0118 FPGA Generic Library Guide.pdf#page=124; ComponentLink1URL: CR0125 FPGA Buffer Resource Usage.pdf#page=34; ComponentLink1Description: Core &Resource Usage; FunctionalClass: Buffer; Enable: High; PortStyle: Single Pin Version
pins: E (in), I0 (in), I1 (in), I2 (in), I3 (in), O0 (out), O1 (out), O2 (out), O3 (out)

## BUFE5B
designator U?
5-Bit 3-state Buffer with Active High Enable, Bus Version; SubClass: BUFE; PortSize: 5; ArchiveName: GENERIC; VHDLIB_SIM: GENERIC_LIB; Published: 29-Jan-2004; Publisher: Altium Limited; LastRevisionNo: 1.00.00; HelpURL: CR0118 FPGA Generic Library Guide.pdf#page=124; ComponentLink1URL: CR0125 FPGA Buffer Resource Usage.pdf#page=35; ComponentLink1Description: Core &Resource Usage; FunctionalClass: Buffer; Enable: High; PortStyle: Bus Version
pins: E (in), I[4..0] (in), O[4..0] (out)
text: [4..0]

## BUFE5S
designator U?
5-Bit 3-state Buffer with Active High Enable, Single Pin Version; SubClass: BUFE; PortSize: 5; ArchiveName: GENERIC; VHDLIB_SIM: GENERIC_LIB; Published: 29-Jan-2004; Publisher: Altium Limited; LastRevisionNo: 1.00.00; HelpURL: CR0118 FPGA Generic Library Guide.pdf#page=124; ComponentLink1URL: CR0125 FPGA Buffer Resource Usage.pdf#page=36; ComponentLink1Description: Core &Resource Usage; FunctionalClass: Buffer; Enable: High; PortStyle: Single Pin Version
pins: E (in), I0 (in), I1 (in), I2 (in), I3 (in), I4 (in), O0 (out), O1 (out), O2 (out), O3 (out), O4 (out)

## BUFE6B
designator U?
6-Bit 3-state Buffer with Active High Enable, Bus Version; SubClass: BUFE; PortSize: 6; ArchiveName: GENERIC; VHDLIB_SIM: GENERIC_LIB; Published: 29-Jan-2004; Publisher: Altium Limited; LastRevisionNo: 1.00.00; HelpURL: CR0118 FPGA Generic Library Guide.pdf#page=124; ComponentLink1URL: CR0125 FPGA Buffer Resource Usage.pdf#page=37; ComponentLink1Description: Core &Resource Usage; FunctionalClass: Buffer; Enable: High; PortStyle: Bus Version
pins: E (in), I[5..0] (in), O[5..0] (out)
text: [5..0]

## BUFE6S
designator U?
6-Bit 3-state Buffer with Active High Enable, Single Pin Version; SubClass: BUFE; PortSize: 6; ArchiveName: GENERIC; VHDLIB_SIM: GENERIC_LIB; Published: 29-Jan-2004; Publisher: Altium Limited; LastRevisionNo: 1.00.00; HelpURL: CR0118 FPGA Generic Library Guide.pdf#page=124; ComponentLink1URL: CR0125 FPGA Buffer Resource Usage.pdf#page=38; ComponentLink1Description: Core &Resource Usage; FunctionalClass: Buffer; Enable: High; PortStyle: Single Pin Version
pins: E (in), I0 (in), I1 (in), I2 (in), I3 (in), I4 (in), I5 (in), O0 (out), O1 (out), O2 (out), O3 (out), O4 (out), O5 (out)

## BUFE7B
designator U?
7-Bit 3-state Buffer with Active High Enable, Bus Version; SubClass: BUFE; PortSize: 7; ArchiveName: GENERIC; VHDLIB_SIM: GENERIC_LIB; Published: 29-Jan-2004; Publisher: Altium Limited; LastRevisionNo: 1.00.00; HelpURL: CR0118 FPGA Generic Library Guide.pdf#page=124; ComponentLink1URL: CR0125 FPGA Buffer Resource Usage.pdf#page=39; ComponentLink1Description: Core &Resource Usage; FunctionalClass: Buffer; Enable: High; PortStyle: Bus Version
pins: E (in), I[6..0] (in), O[6..0] (out)
text: [6..0]

## BUFE7S
designator U?
7-Bit 3-state Buffer with Active High Enable, Single Pin Version; SubClass: BUFE; PortSize: 7; ArchiveName: GENERIC; VHDLIB_SIM: GENERIC_LIB; Published: 29-Jan-2004; Publisher: Altium Limited; LastRevisionNo: 1.00.00; HelpURL: CR0118 FPGA Generic Library Guide.pdf#page=124; ComponentLink1URL: CR0125 FPGA Buffer Resource Usage.pdf#page=40; ComponentLink1Description: Core &Resource Usage; FunctionalClass: Buffer; Enable: High; PortStyle: Single Pin Version
pins: E (in), I0 (in), I1 (in), I2 (in), I3 (in), I4 (in), I5 (in), I6 (in), O0 (out), O1 (out), O2 (out), O3 (out), O4 (out), O5 (out), O6 (out)

## BUFE8B
designator U?
8-Bit 3-state Buffer with Active High Enable, Bus Version; XilinxEquivalent: BUFE8; SubClass: BUFE; PortSize: 8; ArchiveName: GENERIC; VHDLIB_SIM: GENERIC_LIB; Published: 29-Jan-2004; Publisher: Altium Limited; LastRevisionNo: 1.00.00; HelpURL: CR0118 FPGA Generic Library Guide.pdf#page=124; ComponentLink1URL: CR0125 FPGA Buffer Resource Usage.pdf#page=41; ComponentLink1Description: Core &Resource Usage; FunctionalClass: Buffer; Enable: High; PortStyle: Bus Version
pins: E (in), I[7..0] (in), O[7..0] (out)
text: [7..0]

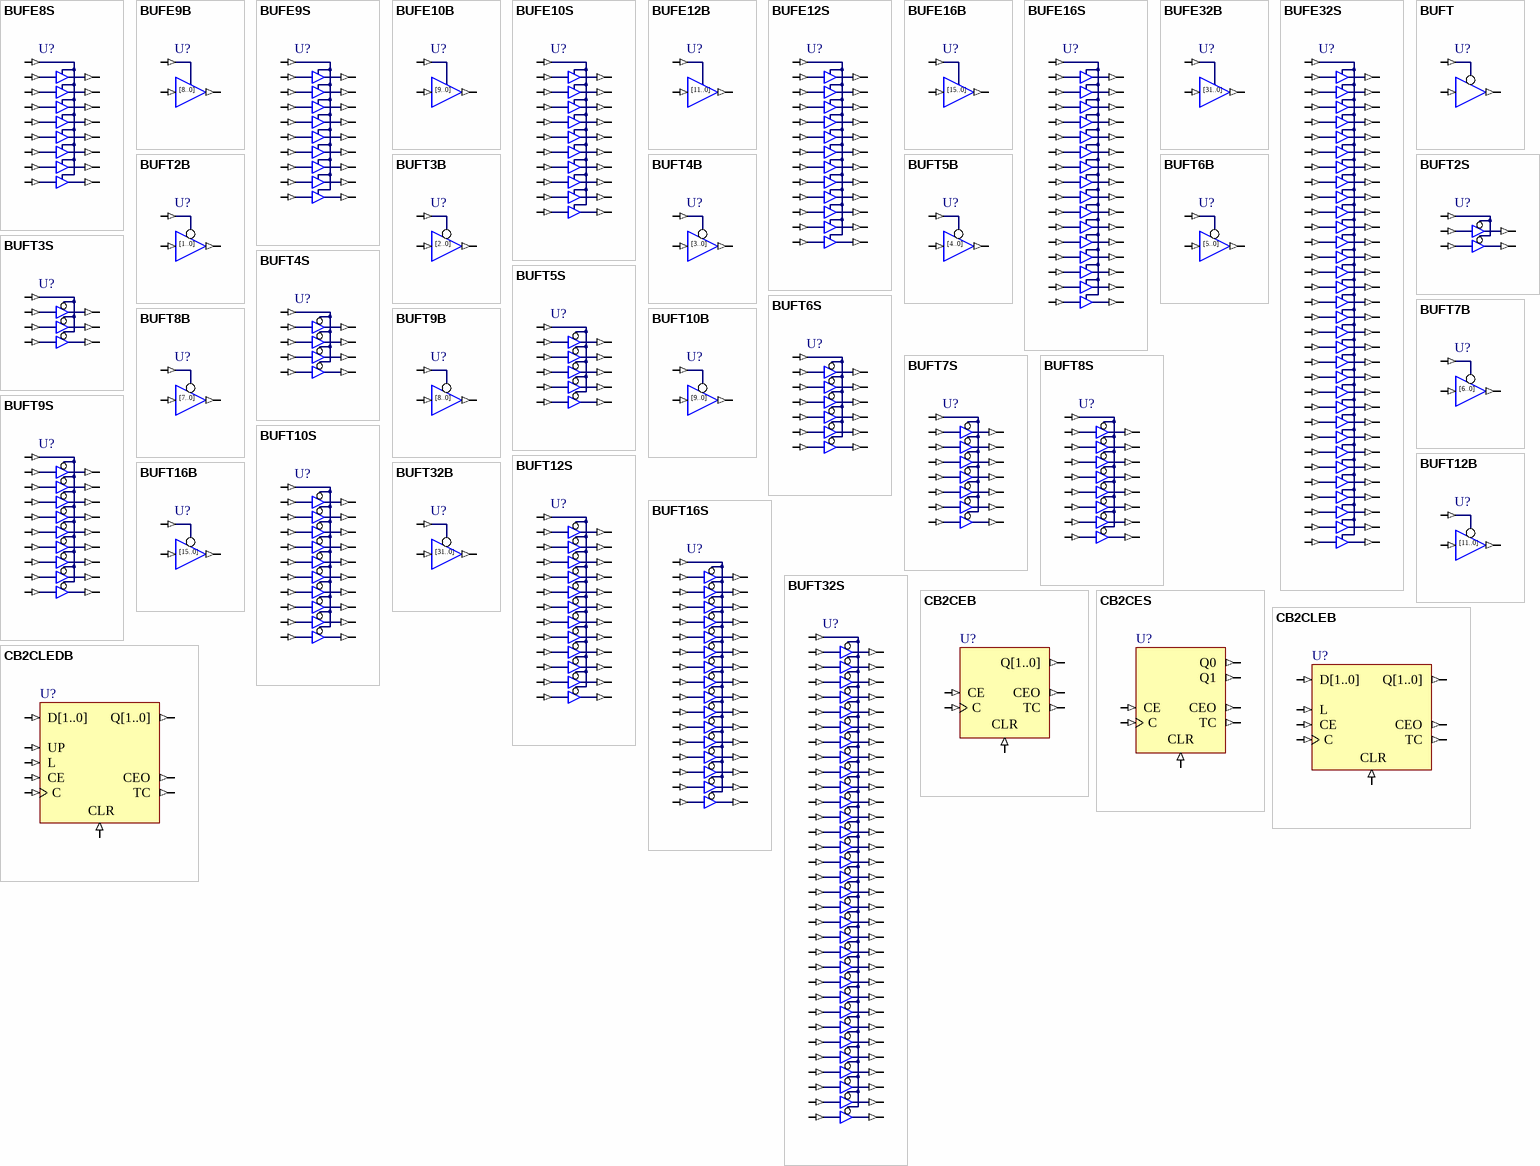
[diagram p4: symbols BUFE8S to CB2CLEDB]

## BUFE8S
designator U?
8-Bit 3-state Buffer with Active High Enable, Single Pin Version; SubClass: BUFE; PortSize: 8; ArchiveName: GENERIC; VHDLIB_SIM: GENERIC_LIB; Published: 29-Jan-2004; Publisher: Altium Limited; LastRevisionNo: 1.00.00; HelpURL: CR0118 FPGA Generic Library Guide.pdf#page=124; ComponentLink1URL: CR0125 FPGA Buffer Resource Usage.pdf#page=42; ComponentLink1Description: Core &Resource Usage; FunctionalClass: Buffer; Enable: High; PortStyle: Single Pin Version
pins: E (in), I0 (in), I1 (in), I2 (in), I3 (in), I4 (in), I5 (in), I6 (in), I7 (in), O0 (out), O1 (out), O2 (out), O3 (out), O4 (out), O5 (out), O6 (out), O7 (out)

## BUFE9B
designator U?
9-Bit 3-state Buffer with Active High Enable, Bus Version; SubClass: BUFE; PortSize: 9; ArchiveName: GENERIC; VHDLIB_SIM: GENERIC_LIB; Published: 29-Jan-2004; Publisher: Altium Limited; LastRevisionNo: 1.00.00; HelpURL: CR0118 FPGA Generic Library Guide.pdf#page=124; ComponentLink1URL: CR0125 FPGA Buffer Resource Usage.pdf#page=43; ComponentLink1Description: Core &Resource Usage; FunctionalClass: Buffer; Enable: High; PortStyle: Bus Version
pins: E (in), I[8..0] (in), O[8..0] (out)
text: [8..0]

## BUFE9S
designator U?
9-Bit 3-state Buffer with Active High Enable, Single Pin Version; SubClass: BUFE; PortSize: 9; ArchiveName: GENERIC; VHDLIB_SIM: GENERIC_LIB; Published: 29-Jan-2004; Publisher: Altium Limited; LastRevisionNo: 1.00.00; HelpURL: CR0118 FPGA Generic Library Guide.pdf#page=124; ComponentLink1URL: CR0125 FPGA Buffer Resource Usage.pdf#page=44; ComponentLink1Description: Core &Resource Usage; FunctionalClass: Buffer; Enable: High; PortStyle: Single Pin Version
pins: E (in), I0 (in), I1 (in), I2 (in), I3 (in), I4 (in), I5 (in), I6 (in), I7 (in), I8 (in), O0 (out), O1 (out), O2 (out), O3 (out), O4 (out), O5 (out), O6 (out), O7 (out), O8 (out)

## BUFE10B
designator U?
10-Bit 3-state Buffer with Active High Enable, Bus Version; SubClass: BUFE; PortSize: 10; ArchiveName: GENERIC; VHDLIB_SIM: GENERIC_LIB; Published: 29-Jan-2004; Publisher: Altium Limited; LastRevisionNo: 1.00.00; HelpURL: CR0118 FPGA Generic Library Guide.pdf#page=124; ComponentLink1URL: CR0125 FPGA Buffer Resource Usage.pdf#page=45; ComponentLink1Description: Core &Resource Usage; FunctionalClass: Buffer; Enable: High; PortStyle: Bus Version
pins: E (in), I[9..0] (in), O[9..0] (out)
text: [9..0]

## BUFE10S
designator U?
10-Bit 3-state Buffer with Active High Enable, Single Pin Version; SubClass: BUFE; PortSize: 10; ArchiveName: GENERIC; VHDLIB_SIM: GENERIC_LIB; Published: 29-Jan-2004; Publisher: Altium Limited; LastRevisionNo: 1.00.00; HelpURL: CR0118 FPGA Generic Library Guide.pdf#page=124; ComponentLink1URL: CR0125 FPGA Buffer Resource Usage.pdf#page=46; ComponentLink1Description: Core &Resource Usage; FunctionalClass: Buffer; Enable: High; PortStyle: Single Pin Version
pins: E (in), I0 (in), I1 (in), I2 (in), I3 (in), I4 (in), I5 (in), I6 (in), I7 (in), I8 (in), I9 (in), O0 (out), O1 (out), O2 (out), O3 (out), O4 (out), O5 (out), O6 (out), O7 (out), O8 (out), O9 (out)

## BUFE12B
designator U?
12-Bit 3-state Buffer with Active High Enable, Bus Version; SubClass: BUFE; PortSize: 12; ArchiveName: GENERIC; VHDLIB_SIM: GENERIC_LIB; Published: 29-Jan-2004; Publisher: Altium Limited; LastRevisionNo: 1.00.00; HelpURL: CR0118 FPGA Generic Library Guide.pdf#page=124; ComponentLink1URL: CR0125 FPGA Buffer Resource Usage.pdf#page=47; ComponentLink1Description: Core &Resource Usage; FunctionalClass: Buffer; Enable: High; PortStyle: Bus Version
pins: E (in), I[11..0] (in), O[11..0] (out)
text: [11..0]

## BUFE12S
designator U?
12-Bit 3-state Buffer with Active High Enable, Single Pin Version; SubClass: BUFE; PortSize: 12; ArchiveName: GENERIC; VHDLIB_SIM: GENERIC_LIB; Published: 29-Jan-2004; Publisher: Altium Limited; LastRevisionNo: 1.00.00; HelpURL: CR0118 FPGA Generic Library Guide.pdf#page=124; ComponentLink1URL: CR0125 FPGA Buffer Resource Usage.pdf#page=48; ComponentLink1Description: Core &Resource Usage; FunctionalClass: Buffer; Enable: High; PortStyle: Single Pin Version
pins: E (in), I0 (in), I1 (in), I2 (in), I3 (in), I4 (in), I5 (in), I6 (in), I7 (in), I8 (in), I9 (in), I10 (in), I11 (in), O0 (out), O1 (out), O2 (out), O3 (out), O4 (out), O5 (out), O6 (out), O7 (out), O8 (out), O9 (out), O10 (out), O11 (out)

## BUFE16B
designator U?
16-Bit 3-state Buffer with Active High Enable, Bus Version; XilinxEquivalent: BUFE16; SubClass: BUFE; PortSize: 16; ArchiveName: GENERIC; VHDLIB_SIM: GENERIC_LIB; Published: 29-Jan-2004; Publisher: Altium Limited; LastRevisionNo: 1.00.00; HelpURL: CR0118 FPGA Generic Library Guide.pdf#page=124; ComponentLink1URL: CR0125 FPGA Buffer Resource Usage.pdf#page=49; ComponentLink1Description: Core &Resource Usage; FunctionalClass: Buffer; Enable: High; PortStyle: Bus Version
pins: E (in), I[15..0] (in), O[15..0] (out)
text: [15..0]

## BUFE16S
designator U?
16-Bit 3-state Buffer with Active High Enable, Single Pin Version; SubClass: BUFE; PortSize: 16; ArchiveName: GENERIC; VHDLIB_SIM: GENERIC_LIB; Published: 29-Jan-2004; Publisher: Altium Limited; LastRevisionNo: 1.00.00; HelpURL: CR0118 FPGA Generic Library Guide.pdf#page=124; ComponentLink1URL: CR0125 FPGA Buffer Resource Usage.pdf#page=50; ComponentLink1Description: Core &Resource Usage; FunctionalClass: Buffer; Enable: High; PortStyle: Single Pin Version
pins: E (in), I0 (in), I1 (in), I2 (in), I3 (in), I4 (in), I5 (in), I6 (in), I7 (in), I8 (in), I9 (in), I10 (in), I11 (in), I12 (in), I13 (in), I14 (in), I15 (in), O0 (out), O1 (out), O2 (out), O3 (out), O4 (out), O5 (out), O6 (out), O7 (out), O8 (out), O9 (out), O10 (out), O11 (out), O12 (out), O13 (out), O14 (out), O15 (out)

## BUFE32B
designator U?
32-Bit 3-state Buffer with Active High Enable, Bus Version; SubClass: BUFE; PortSize: 32; ArchiveName: GENERIC; VHDLIB_SIM: GENERIC_LIB; Published: 29-Jan-2004; Publisher: Altium Limited; LastRevisionNo: 1.00.00; HelpURL: CR0118 FPGA Generic Library Guide.pdf#page=124; ComponentLink1URL: CR0125 FPGA Buffer Resource Usage.pdf#page=51; ComponentLink1Description: Core &Resource Usage; FunctionalClass: Buffer; Enable: High; PortStyle: Bus Version
pins: E (in), I[31..0] (in), O[31..0] (out)
text: [31..0]

## BUFE32S
designator U?
32-Bit 3-state Buffer with Active High Enable, Single Pin Version; SubClass: BUFE; PortSize: 32; ArchiveName: GENERIC; VHDLIB_SIM: GENERIC_LIB; Published: 29-Jan-2004; Publisher: Altium Limited; LastRevisionNo: 1.00.00; HelpURL: CR0118 FPGA Generic Library Guide.pdf#page=124; ComponentLink1URL: CR0125 FPGA Buffer Resource Usage.pdf#page=52; ComponentLink1Description: Core &Resource Usage; FunctionalClass: Buffer; Enable: High; PortStyle: Single Pin Version
pins: E (in), I0 (in), I1 (in), I2 (in), I3 (in), I4 (in), I5 (in), I6 (in), I7 (in), I8 (in), I9 (in), I10 (in), I11 (in), I12 (in), I13 (in), I14 (in), I15 (in), I16 (in), I17 (in), I18 (in), I19 (in), I20 (in), I21 (in), I22 (in), I23 (in), I24 (in), I25 (in), I26 (in), I27 (in), I28 (in), I29 (in), I30 (in), I31 (in), O0 (out), O1 (out), O2 (out), O3 (out), O4 (out), O5 (out), O6 (out), O7 (out), O8 (out), O9 (out), O10 (out), O11 (out), O12 (out), O13 (out), O14 (out), O15 (out), O16 (out), O17 (out), O18 (out), O19 (out), O20 (out), O21 (out), O22 (out), O23 (out), O24 (out), O25 (out), O26 (out), O27 (out), O28 (out), O29 (out), O30 (out), O31 (out)

## BUFT
designator U?
1-Bit 3-state Buffer with Active Low Enable; XilinxEquivalent: BUFT; ArchiveName: GENERIC; VHDLIB_SIM: GENERIC_LIB; Published: 29-Jan-2004; Publisher: Altium Limited; LastRevisionNo: 1.00.00; HelpURL: CR0118 FPGA Generic Library Guide.pdf#page=126; ComponentLink1URL: CR0125 FPGA Buffer Resource Usage.pdf#page=53; ComponentLink1Description: Core &Resource Usage; FunctionalClass: Buffer; SubClass: BUFT; Enable: Low
pins: I (in), O Y (out), T (in)

## BUFT2B
designator U?
2-Bit 3-state Buffer with Active Low Enable, Bus Version; SubClass: BUFT; PortSize: 2; ArchiveName: GENERIC; VHDLIB_SIM: GENERIC_LIB; Published: 29-Jan-2004; Publisher: Altium Limited; LastRevisionNo: 1.00.00; HelpURL: CR0118 FPGA Generic Library Guide.pdf#page=126; ComponentLink1URL: CR0125 FPGA Buffer Resource Usage.pdf#page=54; ComponentLink1Description: Core &Resource Usage; FunctionalClass: Buffer; Enable: Low; PortStyle: Bus Version
pins: I[1..0] (in), O[1..0] (out), T (in)
text: [1..0]